# Altium schematic symbol library Microchip mTouch.SchLib: 3 symbols
Pins are listed as number, name and electrical type; pins without a type are passive.

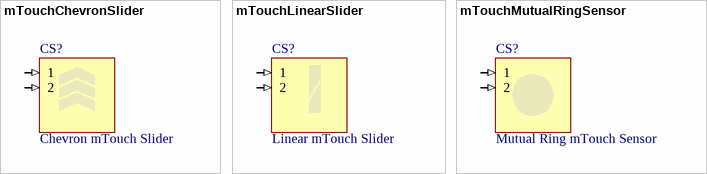
[diagram p0: symbols mTouchChevronSlider to mTouchMutualRingSensor]

## mTouchChevronSlider
designator CS?, comment Chevron mTouch Slider  (no BOM)
ConfiguratorName: MICROCHIP_TOUCH; ConfigurationParameters: {}__sensorid[ChevronSlider]{}angle[75]{}height[20]{}splitWidth[2]{}numDevices[2]{}
pins: 1 (in), 2 (in)

## mTouchLinearSlider
designator CS?, comment Linear mTouch Slider  (no BOM)
ConfiguratorName: MICROCHIP_TOUCH; ConfigurationParameters: {}__sensorid[LinearSlider]{}centerWidth[15]{}squareHeight[20]{}splitWidth[2]{}
pins: 1 (in), 2 (in)

## mTouchMutualRingSensor
designator CS?, comment Mutual Ring mTouch Sensor  (no BOM)
ConfiguratorName: MICROCHIP_TOUCH; ConfigurationParameters: {}__sensorid[MutualCircle]{}inPadDiameter[2]{}middlePadDiameter[1]{}outPadDiameter[4]{}
pins: 1 (in), 2 (in)